# Altium footprint library LQFP-64_L10.0-W10.0-P0.50-LS12.0-BL.PcbLib: 1 footprints
Each footprint in its own frame and in the unit in brackets; x right, y up, seen from the top. Pads: shape width x height; smd on the part's side, far side on the other; paste and mask are expansions set on the pad; w line width, h text height; cw(c..) or ccw(c..) is an arc to the next point about the centre after c.
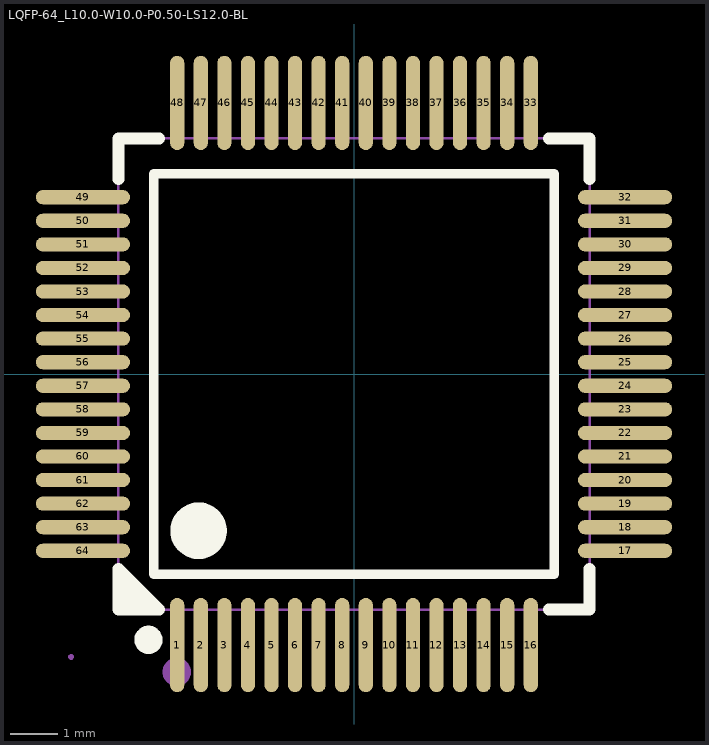
[diagram p0: the footprint, top view; thin cyan lines are the x and y axes]

## LQFP-64_L10.0-W10.0-P0.50-LS12.0-BL [mm]
pads (64):
  oval 0.3x2 smd paste+0 mask+0.051: 1(-3.75,-5.75) 2(-3.25,-5.75) 3(-2.75,-5.75) 4(-2.25,-5.75) 5(-1.75,-5.75) 6(-1.25,-5.75) 7(-0.75,-5.75) 8(-0.25,-5.75) 9(0.25,-5.75) 10(0.75,-5.75) 11(1.25,-5.75) 12(1.75,-5.75) 13(2.25,-5.75) 14(2.75,-5.75) 15(3.25,-5.75) 16(3.75,-5.75) 33(3.75,5.75) 34(3.25,5.75) 35(2.75,5.75) 36(2.25,5.75) 37(1.75,5.75) 38(1.25,5.75) 39(0.75,5.75) 40(0.25,5.75) 41(-0.25,5.75) 42(-0.75,5.75) 43(-1.25,5.75) 44(-1.75,5.75) 45(-2.25,5.75) 46(-2.75,5.75) 47(-3.25,5.75) 48(-3.75,5.75)
  oval 2x0.3 smd paste+0 mask+0.051: 17(5.75,-3.75) 18(5.75,-3.25) 19(5.75,-2.75) 20(5.75,-2.25) 21(5.75,-1.75) 22(5.75,-1.25) 23(5.75,-0.75) 24(5.75,-0.25) 25(5.75,0.25) 26(5.75,0.75) 27(5.75,1.25) 28(5.75,1.75) 29(5.75,2.25) 30(5.75,2.75) 31(5.75,3.25) 32(5.75,3.75) 49(-5.75,3.75) 50(-5.75,3.25) 51(-5.75,2.75) 52(-5.75,2.25) 53(-5.75,1.75) 54(-5.75,1.25) 55(-5.75,0.75) 56(-5.75,0.25) 57(-5.75,-0.25) 58(-5.75,-0.75) 59(-5.75,-1.25) 60(-5.75,-1.75) 61(-5.75,-2.25) 62(-5.75,-2.75) 63(-5.75,-3.25) 64(-5.75,-3.75)
Top Overlay:
  region: -4.131,-5 -5,-4.131 -5,-5
  lines w0.2: -4.25,-4.25 -4.25,4.25 4.25,4.25 4.25,-4.25 -4.25,-4.25
  lines w0.254: -5,4.131 -5,5 -4.131,5 ; 4.131,-5 5,-5 5,-4.131 ; 4.131,5 5,5 5,4.131 ; -5,-4.131 -5,-4.131 ; -5,-4.131 -4.131,-5 -5,-5 -5,-4.131
  lines w0.3: -4.361,-5.49 ccw(c-4.36,-5.64) -4.36,-5.79 ccw(c-4.36,-5.64) -4.359,-5.49
  lines w0.6: -3.299,-3.025 ccw(c-3.297,-3.325) -3.297,-3.625 ccw(c-3.297,-3.325) -3.294,-3.025
Mechanical 6:
  circle w0.3: c-3.76,-6.32 r0.15
Mechanical 15:
  drawing of 133 lines, arcs and shapes, not listed
3D body "MCU_STM32FA RETx'.STEP": height 1.6, standoff 0, extent -6,-6 6,6